# Altium footprint library LTST-C190KRKT.PcbLib: 3 footprints
Each footprint in its own frame and in the unit in brackets; x right, y up, seen from the top. Pads: shape width x height; smd on the part's side, far side on the other; paste and mask are expansions set on the pad; w line width, h text height; cw(c..) or ccw(c..) is an arc to the next point about the centre after c.
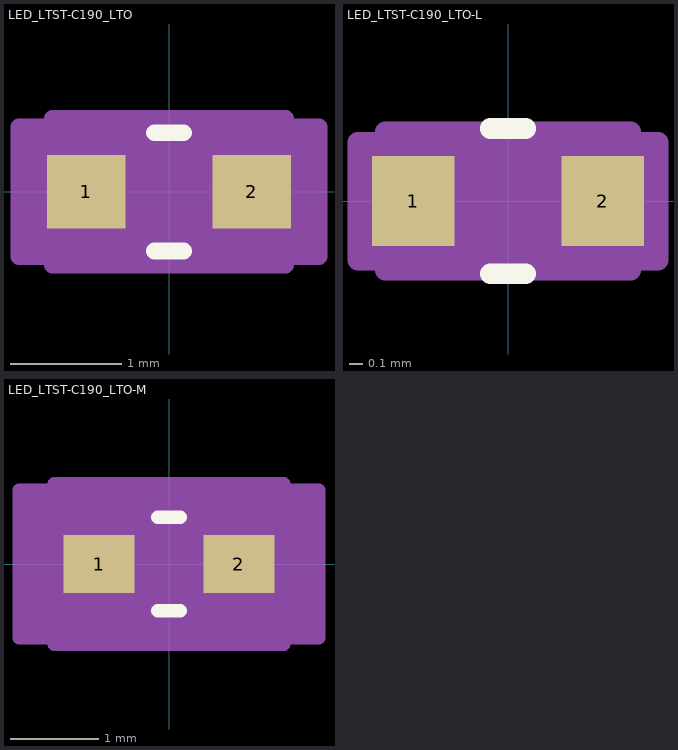
[diagram p0: the footprints below, top view; thin cyan lines are the x and y axes]

## LED_LTST-C190_LTO [mm]
pads (2):
  rect 0.706x0.661 smd paste+0 mask+0: 1(-0.747,0) 2(0.747,0)
Top Overlay:
  lines w0.152: -0.13,-0.533 0.13,-0.533 ; -0.13,0.533 0.13,0.533
  text ".Designator" at -3.492,-0.635 h1.27
Mechanical 13:
  circle w0.025: c-0.394,0 r0.076
  lines w0.025: -0.305,0.406 ccw(c0,0.406) 0.305,0.406 ; -0.8,-0.406 0.8,-0.406 0.8,0.406 -0.8,0.406 -0.8,-0.406
  text ".Designator" at -3.492,-0.635 h1.27
Mechanical 15:
  region: -1.054,-0.585 -1.354,-0.585 -1.354,0.585 -1.054,0.585 -1.054,0.66 1.054,0.66 1.054,0.585 1.354,0.585 1.354,-0.585 1.054,-0.585 1.054,-0.66 -1.054,-0.66
  lines w0.152: -1.354,-0.585 -1.354,0.585 -1.054,0.585 -1.054,0.66 1.054,0.66 1.054,0.585 1.354,0.585 1.354,-0.585 1.054,-0.585 1.054,-0.66 -1.054,-0.66 -1.054,-0.585 -1.354,-0.585
3D body "LED_LTST-C190_LTO.step": height 0.81, standoff 0, extent -0.8,-0.406 0.8,0.406

## LED_LTST-C190_LTO-L [mm]
pads (2):
  rect 0.606x0.661 smd paste+0 mask+0: 1(-0.697,0) 2(0.697,0)
Top Overlay:
  lines w0.152: -0.13,-0.533 0.13,-0.533 ; -0.13,0.533 0.13,0.533
  text ".Designator" at -3.492,-0.635 h1.27
Mechanical 13:
  circle w0.025: c-0.394,0 r0.076
  lines w0.025: -0.305,0.406 ccw(c0,0.406) 0.305,0.406 ; -0.8,-0.406 0.8,-0.406 0.8,0.406 -0.8,0.406 -0.8,-0.406
  text ".Designator" at -3.492,-0.635 h1.27
Mechanical 15:
  region: -0.902,-0.432 -1.102,-0.432 -1.102,0.432 -0.902,0.432 -0.902,0.508 0.902,0.508 0.902,0.432 1.102,0.432 1.102,-0.432 0.902,-0.432 0.902,-0.508 -0.902,-0.508
  lines w0.152: -1.102,-0.432 -1.102,0.432 -0.902,0.432 -0.902,0.508 0.902,0.508 0.902,0.432 1.102,0.432 1.102,-0.432 0.902,-0.432 0.902,-0.508 -0.902,-0.508 -0.902,-0.432 -1.102,-0.432
3D body "LED_LTST-C190_LTO.step": height 0.81, standoff 0, extent -0.8,-0.406 0.8,0.406

## LED_LTST-C190_LTO-M [mm]
pads (2):
  rect 0.806x0.661 smd paste+0 mask+0: 1(-0.797,0) 2(0.797,0)
Top Overlay:
  lines w0.152: -0.13,-0.533 0.13,-0.533 ; -0.13,0.533 0.13,0.533
  text ".Designator" at -3.492,-0.635 h1.27
Mechanical 13:
  circle w0.025: c-0.394,0 r0.076
  lines w0.025: -0.305,0.406 ccw(c0,0.406) 0.305,0.406 ; -0.8,-0.406 0.8,-0.406 0.8,0.406 -0.8,0.406 -0.8,-0.406
  text ".Designator" at -3.492,-0.635 h1.27
Mechanical 15:
  region: -1.308,-0.839 -1.708,-0.839 -1.708,0.839 -1.308,0.839 -1.308,0.914 1.308,0.914 1.308,0.839 1.708,0.839 1.708,-0.839 1.308,-0.839 1.308,-0.914 -1.308,-0.914
  lines w0.152: -1.708,-0.839 -1.708,0.839 -1.308,0.839 -1.308,0.914 1.308,0.914 1.308,0.839 1.708,0.839 1.708,-0.839 1.308,-0.839 1.308,-0.914 -1.308,-0.914 -1.308,-0.839 -1.708,-0.839
3D body "LED_LTST-C190_LTO.step": height 0.81, standoff 0, extent -0.8,-0.406 0.8,0.406